# EAGLE library part FT260Q-T (library FT260Q-T)
HID-class USB to UART/I2C Bridge QFN28 Tray
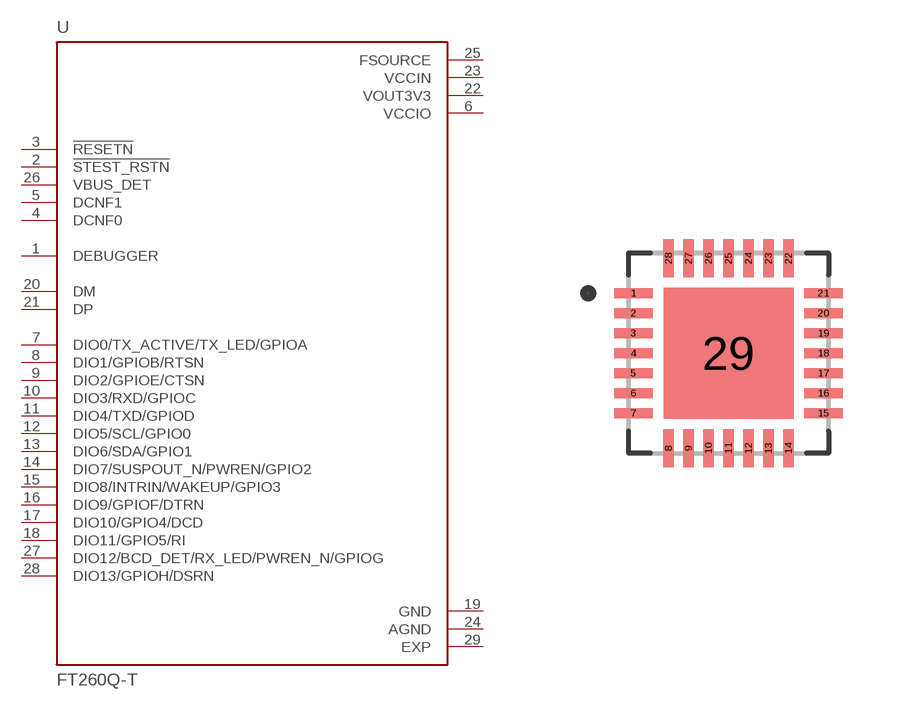
[diagram p0: symbol with the pads of QFN50P500X500X80-29N; footprint QFN50P500X500X80-29N]

Designator prefix U

## FT260Q-T (Availability: Unavailable; Description: USB Bridge, USB to I²C/UART USB 2.0 I²C, UART Interface 28-WQFN _5x5_; MF: FTDI,; MP: FT260Q-T; Package: WQFN-28 FTDI; Price: None)  [QFN50P500X500X80-29N]
1  DEBUGGER
2  !STEST_RSTN  in
3  !RESETN  in
4  DCNF0  in
5  DCNF1  in
6  VCCIO  pwr
7  DIO0/TX_ACTIVE/TX_LED/GPIOA
8  DIO1/GPIOB/RTSN
9  DIO2/GPIOE/CTSN
10  DIO3/RXD/GPIOC
11  DIO4/TXD/GPIOD
12  DIO5/SCL/GPIO0
13  DIO6/SDA/GPIO1
14  DIO7/SUSPOUT_N/PWREN/GPIO2
15  DIO8/INTRIN/WAKEUP/GPIO3
16  DIO9/GPIOF/DTRN
17  DIO10/GPIO4/DCD
18  DIO11/GPIO5/RI
19  GND  pwr
20  DM
21  DP
22  VOUT3V3  pwr
23  VCCIN  pwr
24  AGND  pwr
25  FSOURCE  pwr
26  VBUS_DET  in
27  DIO12/BCD_DET/RX_LED/PWREN_N/GPIOG
28  DIO13/GPIOH/DSRN
29  EXP  pwr

## Footprint QFN50P500X500X80-29N (pad centres in mm)
smd 0.96 x 0.26: 1 -2.375,1.5; 2 -2.375,1; 3 -2.375,0.5; 4 -2.375,0; 5 -2.375,-0.5; 6 -2.375,-1; 7 -2.375,-1.5; 15 2.375,-1.5; 16 2.375,-1; 17 2.375,-0.5; 18 2.375,0; 19 2.375,0.5; 20 2.375,1; 21 2.375,1.5
smd 0.26 x 0.96: 8 -1.5,-2.375; 9 -1,-2.375; 10 -0.5,-2.375; 11 0,-2.375; 12 0.5,-2.375; 13 1,-2.375; 14 1.5,-2.375; 22 1.5,2.375; 23 1,2.375; 24 0.5,2.375; 25 0,2.375; 26 -0.5,2.375; 27 -1,2.375; 28 -1.5,2.375
smd 1.27 x 1.27: 29 0,0